# Altium schematic symbol library radio-modules.SchLib: 1 symbol
Pins are listed as number, name and electrical type; pins without a type are passive.

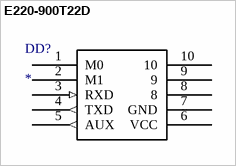
[diagram p0: symbol E220-900T22D]

## E220-900T22D
designator DD?
footprint E220-900T22D
pins: 1 M0, 2 M1, 3 RXD (in), 4 TXD (out), 5 AUX (out), 6 VCC (power), 7 GND (power), 8, 9, 10